# Altium footprint library Mechanical_3D.PcbLib: 98 footprints (part 2 of 7)
Each footprint in its own frame and in the unit in brackets; x right, y up, seen from the top. Pads: shape width x height; smd on the part's side, far side on the other; paste and mask are expansions set on the pad; w line width, h text height; cw(c..) or ccw(c..) is an arc to the next point about the centre after c.
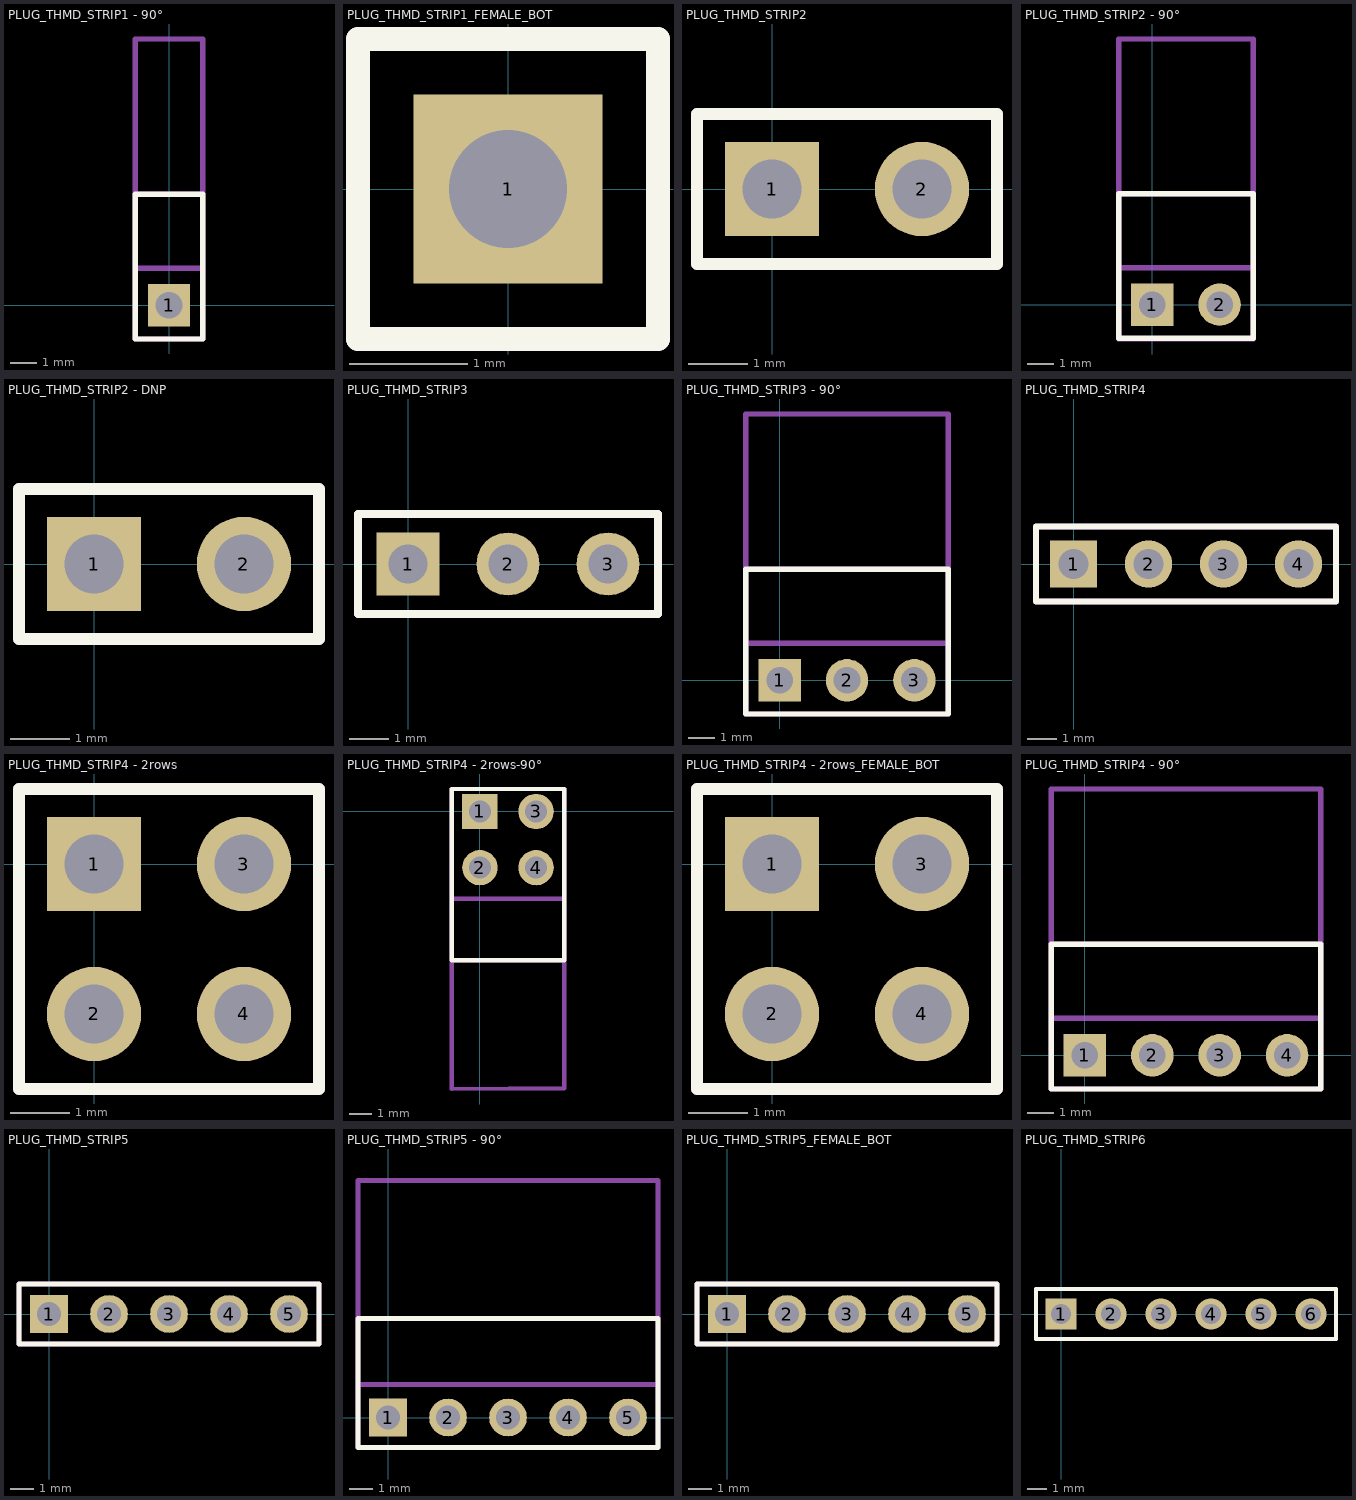
[diagram p1: the footprints below, top view; thin cyan lines are the x and y axes]

## PLUG_THMD_STRIP1 - 90° [mm]
pads (1):
  rect 1.6x1.6 / inner round 1.524 / far side rect 1.6x1.6 hole 1 paste+0 mask+0: 1(0,0)
Top Overlay:
  lines w0.203: -1.27,-1.27 1.27,-1.27 1.27,4.191 -1.27,4.191 -1.27,-1.27
Mechanical 13:
  lines w0.2: -1.27,1.397 1.27,1.397 1.27,4.191 -1.27,4.191 -1.27,1.397
  text "1" at -2.156,-0.448 h0.95
Mechanical 15:
  lines w0.203: -1.27,-1.27 -1.27,10.033 1.27,10.033 1.27,-1.27 -1.27,-1.27
3D body "Stripline_1row90_deg.stp": height 2.55, standoff -2.99, extent -1.27,-0.32 1.27,10.04

## PLUG_THMD_STRIP1_FEMALE_BOT [mm] "FEMALE BOTTOM MOUNT - silk Top"
pads (1):
  rect 1.6x1.6 / inner round 1.524 / far side rect 1.6x1.6 hole 1 paste+0 mask+0: 1(0,0)
Top Overlay:
  lines w0.203: -1.27,-1.27 -1.27,1.27 1.27,1.27 1.27,-1.27 -1.27,-1.27
Mechanical 13:
  lines w0.203: -1.27,-1.27 -1.27,1.27 1.27,1.27 1.27,-1.27 -1.27,-1.27
  text "1" at -2.156,-0.448 h0.95
Mechanical 15:
  lines w0.203: -1.27,-1.27 -1.27,1.27 1.27,1.27 1.27,-1.27 -1.27,-1.27
3D body "BL5-1.STEP": height 7, standoff -3.1, extent -1.27,-1.27 1.27,1.27

## PLUG_THMD_STRIP2 [mm]
pads (2):
  rect 1.6x1.6 / inner round 1.524 / far side rect 1.6x1.6 hole 1 paste+0 mask+0: 1(0,0)
  round 1.6 / inner round 1.524 / far side round 1.6 hole 1 paste+0 mask+0: 2(2.54,0)
Top Overlay:
  lines w0.203: -1.27,-1.27 -1.27,1.27 3.81,1.27 3.81,-1.27 -1.27,-1.27
Mechanical 13:
  lines w0.203: -1.27,-1.27 3.81,-1.27 3.81,1.27 -1.27,1.27 -1.27,-1.27
  text "1" at -2.156,-0.448 h0.95
3D body "Stripline_1.stp": height 8.57, standoff -2.97, extent -1.27,-1.27 1.27,1.27
3D body "Stripline_1.stp": height 8.57, standoff -2.97, extent 1.27,-1.27 3.81,1.27

## PLUG_THMD_STRIP2 - 90° [mm]
pads (2):
  rect 1.6x1.6 / inner round 1.524 / far side rect 1.6x1.6 hole 1 paste+0 mask+0: 1(0,0)
  round 1.6 / inner round 1.524 / far side round 1.6 hole 1 paste+0 mask+0: 2(2.54,0)
Top Overlay:
  lines w0.203: -1.27,-1.27 -1.27,4.191 3.81,4.191 3.81,-1.27 -1.27,-1.27
Mechanical 13:
  lines w0.203: -1.27,1.397 3.81,1.397 3.81,4.191 -1.27,4.191 -1.27,1.397
  text "1" at -2.156,-0.448 h0.95
Mechanical 15:
  lines w0.203: -1.27,-1.297 3.81,-1.297 ; -1.27,-1.27 -1.27,10.033 3.81,10.033 3.81,-1.27
3D body "Stripline_1row90_deg.stp": height 2.54, standoff -3, extent 1.27,-0.354 3.81,10.006
3D body "Stripline_1row90_deg.stp": height 2.54, standoff -3, extent -1.27,-0.354 1.27,10.006

## PLUG_THMD_STRIP2 - DNP [mm]
pads (2):
  rect 1.6x1.6 / inner round 1.524 / far side rect 1.6x1.6 hole 1 paste+0 mask+0: 1(0,0)
  round 1.6 / inner round 1.524 / far side round 1.6 hole 1 paste+0 mask+0: 2(2.54,0)
Top Overlay:
  lines w0.203: -1.27,-1.27 3.81,-1.27 3.81,1.27 -1.27,1.27 -1.27,-1.27
Mechanical 13:
  lines w0.203: -1.27,-1.27 -1.27,1.27 3.81,1.27 3.81,-1.27 -1.27,-1.27
  text "1" at -2.156,-0.448 h0.95

## PLUG_THMD_STRIP3 [mm]
pads (3):
  rect 1.6x1.6 / inner round 1.524 / far side rect 1.6x1.6 hole 1 paste+0 mask+0: 1(0,0)
  round 1.6 / inner round 1.524 / far side round 1.6 hole 1 paste+0 mask+0: 2(2.54,0) 3(5.08,0)
Top Overlay:
  lines w0.203: -1.27,-1.27 6.35,-1.27 6.35,1.27 -1.27,1.27 -1.27,-1.27
Mechanical 13:
  lines w0.203: -1.27,-1.27 -1.27,1.27 6.35,1.27 6.35,-1.27 -1.27,-1.27
  text "1" at -2.156,-0.448 h0.95
3D body "Stripline_1.stp": height 8.57, standoff -2.97, extent 3.81,-1.27 6.35,1.27
3D body "Stripline_1.stp": height 8.57, standoff -2.97, extent 1.27,-1.27 3.81,1.27
3D body "Stripline_1.stp": height 8.57, standoff -2.97, extent -1.27,-1.27 1.27,1.27

## PLUG_THMD_STRIP3 - 90° [mm]
pads (3):
  rect 1.6x1.6 / inner round 1.524 / far side rect 1.6x1.6 hole 1 paste+0 mask+0: 1(0,0)
  round 1.6 / inner round 1.524 / far side round 1.6 hole 1 paste+0 mask+0: 2(2.54,0) 3(5.08,0)
Top Overlay:
  lines w0.203: -1.27,1.27 -1.27,-1.27 ; 3.81,-1.27 -1.27,-1.27 ; -1.27,-1.27 6.35,-1.27 6.35,4.191 -1.27,4.191 -1.27,-1.27
Mechanical 13:
  lines w0.2: -1.27,1.397 6.35,1.397 6.35,4.191 -1.27,4.191 -1.27,1.397
  text "1" at -2.156,-0.448 h0.95
Mechanical 15:
  lines w0.203: -1.27,-1.27 6.35,-1.27 6.35,10.033 -1.27,10.033 -1.27,-1.27
3D body "Stripline_1row90_deg.stp": height 2.54, standoff -3, extent -1.27,-0.354 1.27,10.006
3D body "Stripline_1row90_deg.stp": height 2.54, standoff -3, extent 1.27,-0.354 3.81,10.006
3D body "Stripline_1row90_deg.stp": height 2.54, standoff -3, extent 3.81,-0.354 6.35,10.006

## PLUG_THMD_STRIP4 [mm]
pads (4):
  rect 1.6x1.6 / inner round 1.524 / far side rect 1.6x1.6 hole 1 paste+0 mask+0: 1(0,0)
  round 1.6 / inner round 1.524 / far side round 1.6 hole 1 paste+0 mask+0: 2(2.54,0) 3(5.08,0) 4(7.62,0)
Top Overlay:
  lines w0.203: -1.27,-1.27 -1.27,1.27 8.89,1.27 8.89,-1.27 -1.27,-1.27
Mechanical 13:
  lines w0.203: -1.27,-1.27 8.89,-1.27 8.89,1.27 -1.27,1.27 -1.27,-1.27
  text "1" at -2.156,-0.448 h0.95
3D body "Stripline_1.stp": height 8.57, standoff -2.97, extent 6.35,-1.27 8.89,1.27
3D body "Stripline_1.stp": height 8.57, standoff -2.97, extent 3.81,-1.27 6.35,1.27
3D body "Stripline_1.stp": height 8.57, standoff -2.97, extent 1.27,-1.27 3.81,1.27
3D body "Stripline_1.stp": height 8.57, standoff -2.97, extent -1.27,-1.27 1.27,1.27

## PLUG_THMD_STRIP4 - 2rows [mm]
pads (4):
  rect 1.6x1.6 / inner round 1.524 / far side rect 1.6x1.6 hole 1 paste+0 mask+0: 1(0,0)
  round 1.6 / inner round 1.524 / far side round 1.6 hole 1 paste+0 mask+0: 2(0,-2.54) 3(2.54,0) 4(2.54,-2.54)
Top Overlay:
  lines w0.203: -1.27,-3.81 3.81,-3.81 3.81,1.27 -1.27,1.27 -1.27,-3.81
Mechanical 13:
  lines w0.203: -1.27,-3.81 3.81,-3.81 3.81,1.27 -1.27,1.27 -1.27,-3.81
  text "1" at -2.156,-0.448 h0.95
3D body "Stripline_2row.stp": height 8.57, standoff -2.97, extent 1.27,-3.81 3.81,1.27
3D body "Stripline_2row.stp": height 8.57, standoff -2.97, extent -1.27,-3.81 1.27,1.27

## PLUG_THMD_STRIP4 - 2rows-90° [mm]
pads (4):
  rect 1.6x1.6 / inner round 1.524 / far side rect 1.6x1.6 hole 1 paste+0 mask+0: 1(0,0)
  round 1.6 / inner round 1.524 / far side round 1.6 hole 1 paste+0 mask+0: 2(0,-2.54) 3(2.54,0) 4(2.54,-2.54)
Top Overlay:
  lines w0.203: -1.27,-6.731 -1.27,1.016 3.81,1.016 3.81,-6.731 -1.27,-6.731
Mechanical 13:
  lines w0.2: -1.27,-6.731 3.81,-6.731 3.81,-3.937 -1.27,-3.937 -1.27,-6.731
  text "1" at -2.156,-0.448 h0.95
Mechanical 15:
  lines w0.203: 3.805,-12.522 -1.27,-12.548 -1.27,1.016 3.81,1.016 3.81,-12.518
3D body "Stripline_2row90_deg.stp": height 5.14, standoff -2.94, extent 1.27,-12.57 3.81,0.33
3D body "Stripline_2row90_deg.stp": height 5.14, standoff -2.94, extent -1.27,-12.57 1.27,0.33

## PLUG_THMD_STRIP4 - 2rows_FEMALE_BOT [mm] "FEMALE BOTTOM MOUNT - silk Top"
pads (4):
  rect 1.6x1.6 / inner round 1.524 / far side rect 1.6x1.6 hole 1 paste+0 mask+0: 1(0,0)
  round 1.6 / inner round 1.524 / far side round 1.6 hole 1 paste+0 mask+0: 2(0,-2.54) 3(2.54,0) 4(2.54,-2.54)
Top Overlay:
  lines w0.203: -1.27,-3.81 -1.27,1.27 3.81,1.27 3.81,-3.81 -1.27,-3.81
Mechanical 13:
  lines w0.203: -1.27,-3.81 -1.27,1.27 3.81,1.27 3.81,-3.81 -1.27,-3.81
  text "1" at -2.156,-0.448 h0.95
3D body "BL5-1.STEP": height 7, standoff -3.1, extent 1.27,-3.81 3.81,-1.27
3D body "BL5-1.STEP": height 7, standoff -3.1, extent 1.27,-1.27 3.81,1.27
3D body "BL5-1.STEP": height 7, standoff -3.1, extent -1.27,-3.81 1.27,-1.27
3D body "BL5-1.STEP": height 7, standoff -3.1, extent -1.27,-1.27 1.27,1.27

## PLUG_THMD_STRIP4 - 90° [mm]
pads (4):
  rect 1.6x1.6 / inner round 1.524 / far side rect 1.6x1.6 hole 1 paste+0 mask+0: 1(0,0)
  round 1.6 / inner round 1.524 / far side round 1.6 hole 1 paste+0 mask+0: 2(2.54,0) 3(5.08,0) 4(7.62,0)
Top Overlay:
  lines w0.203: -1.27,1.27 -1.27,-1.27 ; 3.81,-1.27 -1.27,-1.27 ; -1.27,-1.27 -1.27,4.191 8.89,4.191 8.89,-1.27 -1.27,-1.27
Mechanical 13:
  lines w0.2: -1.27,1.397 8.89,1.397 8.89,4.191 -1.27,4.191 -1.27,1.397
  text "1" at -2.156,-0.448 h0.95
Mechanical 15:
  lines w0.203: -1.27,-1.27 -1.27,10.033 8.89,10.033 8.89,-1.27 -1.27,-1.27
3D body "Stripline_1row90_deg.stp": height 2.54, standoff -3, extent 6.35,-0.354 8.89,10.006
3D body "Stripline_1row90_deg.stp": height 2.54, standoff -3, extent 3.81,-0.354 6.35,10.006
3D body "Stripline_1row90_deg.stp": height 2.54, standoff -3, extent 1.27,-0.354 3.81,10.006
3D body "Stripline_1row90_deg.stp": height 2.54, standoff -3, extent -1.27,-0.354 1.27,10.006

## PLUG_THMD_STRIP5 [mm]
pads (5):
  rect 1.6x1.6 / inner round 1.524 / far side rect 1.6x1.6 hole 1 paste+0 mask+0: 1(0,0)
  round 1.6 / inner round 1.524 / far side round 1.6 hole 1 paste+0 mask+0: 2(2.54,0) 3(5.08,0) 4(7.62,0) 5(10.16,0)
Top Overlay:
  lines w0.203: -1.27,-1.27 -1.27,1.27 11.43,1.27 11.43,-1.27 -1.27,-1.27
Mechanical 13:
  lines w0.203: -1.27,-1.27 -1.27,1.27 11.43,1.27 11.43,-1.27 -1.27,-1.27
  text "1" at -2.156,-0.448 h0.95
3D body "Stripline_1.stp": height 8.57, standoff -2.97, extent 8.89,-1.27 11.43,1.27
3D body "Stripline_1.stp": height 8.57, standoff -2.97, extent 6.35,-1.27 8.89,1.27
3D body "Stripline_1.stp": height 8.57, standoff -2.97, extent 3.81,-1.27 6.35,1.27
3D body "Stripline_1.stp": height 8.57, standoff -2.97, extent 1.27,-1.27 3.81,1.27
3D body "Stripline_1.stp": height 8.57, standoff -2.97, extent -1.27,-1.27 1.27,1.27

## PLUG_THMD_STRIP5 - 90° [mm]
pads (5):
  rect 1.6x1.6 / inner round 1.524 / far side rect 1.6x1.6 hole 1 paste+0 mask+0: 1(0,0)
  round 1.6 / inner round 1.524 / far side round 1.6 hole 1 paste+0 mask+0: 2(2.54,0) 3(5.08,0) 4(7.62,0) 5(10.16,0)
Top Overlay:
  lines w0.203: -1.27,1.27 -1.27,-1.27 ; 3.81,-1.27 -1.27,-1.27 ; -1.27,-1.27 -1.27,4.191 11.43,4.191 11.43,-1.27 -1.27,-1.27
Mechanical 13:
  lines w0.2: -1.27,1.397 11.43,1.397 11.43,4.191 -1.27,4.191 -1.27,1.397
  text "1" at -2.156,-0.448 h0.95
Mechanical 15:
  lines w0.203: -1.27,-1.27 -1.27,10.033 11.43,10.033 11.43,-1.27 -1.27,-1.27
3D body "Stripline_1row90_deg.stp": height 2.54, standoff -3, extent 8.89,-0.354 11.43,10.006
3D body "Stripline_1row90_deg.stp": height 2.54, standoff -3, extent 6.35,-0.354 8.89,10.006
3D body "Stripline_1row90_deg.stp": height 2.54, standoff -3, extent 3.81,-0.354 6.35,10.006
3D body "Stripline_1row90_deg.stp": height 2.54, standoff -3, extent 1.27,-0.354 3.81,10.006
3D body "Stripline_1row90_deg.stp": height 2.54, standoff -3, extent -1.27,-0.354 1.27,10.006

## PLUG_THMD_STRIP5_FEMALE_BOT [mm] "FEMALE BOTTOM MOUNT - silk Top"
pads (5):
  rect 1.6x1.6 / inner round 1.524 / far side rect 1.6x1.6 hole 1 paste+0 mask+0: 1(0,0)
  round 1.6 / inner round 1.524 / far side round 1.6 hole 1 paste+0 mask+0: 2(2.54,0) 3(5.08,0) 4(7.62,0) 5(10.16,0)
Top Overlay:
  lines w0.203: -1.27,-1.27 11.43,-1.27 11.43,1.27 -1.27,1.27 -1.27,-1.27
Mechanical 13:
  lines w0.203: -1.27,-1.27 11.43,-1.27 11.43,1.27 -1.27,1.27 -1.27,-1.27
  text "1" at -2.156,-0.448 h0.95
3D body "BL5-1.STEP": height 7, standoff -3.1, extent 8.89,-1.27 11.43,1.27
3D body "BL5-1.STEP": height 7, standoff -3.1, extent 6.35,-1.27 8.89,1.27
3D body "BL5-1.STEP": height 7, standoff -3.1, extent 3.81,-1.27 6.35,1.27
3D body "BL5-1.STEP": height 7, standoff -3.1, extent 1.27,-1.27 3.81,1.27
3D body "BL5-1.STEP": height 7, standoff -3.1, extent -1.27,-1.27 1.27,1.27

## PLUG_THMD_STRIP6 [mm]
pads (6):
  rect 1.6x1.6 / inner round 1.524 / far side rect 1.6x1.6 hole 1 paste+0 mask+0: 1(0,0)
  round 1.6 / inner round 1.524 / far side round 1.6 hole 1 paste+0 mask+0: 2(2.54,0) 3(5.08,0) 4(7.62,0) 5(10.16,0) 6(12.7,0)
Top Overlay:
  lines w0.203: -1.27,-1.27 -1.27,1.27 13.97,1.27 13.97,-1.27 -1.27,-1.27
Mechanical 13:
  lines w0.203: -1.27,-1.27 -1.27,1.27 13.97,1.27 13.97,-1.27 -1.27,-1.27
  text "1" at -2.156,-0.448 h0.95
3D body "Stripline_1.stp": height 8.57, standoff -2.97, extent 8.89,-1.27 11.43,1.27
3D body "Stripline_1.stp": height 8.57, standoff -2.97, extent 6.35,-1.27 8.89,1.27
3D body "Stripline_1.stp": height 8.57, standoff -2.97, extent 3.81,-1.27 6.35,1.27
3D body "Stripline_1.stp": height 8.57, standoff -2.97, extent 1.27,-1.27 3.81,1.27
3D body "Stripline_1.stp": height 8.57, standoff -2.97, extent -1.27,-1.27 1.27,1.27
3D body "Stripline_1.stp": height 8.57, standoff -2.97, extent 11.43,-1.27 13.97,1.27